# Altium schematic symbol library Projects Library.SchLib: 4 symbols
Pins are listed as number, name and electrical type; pins without a type are passive.

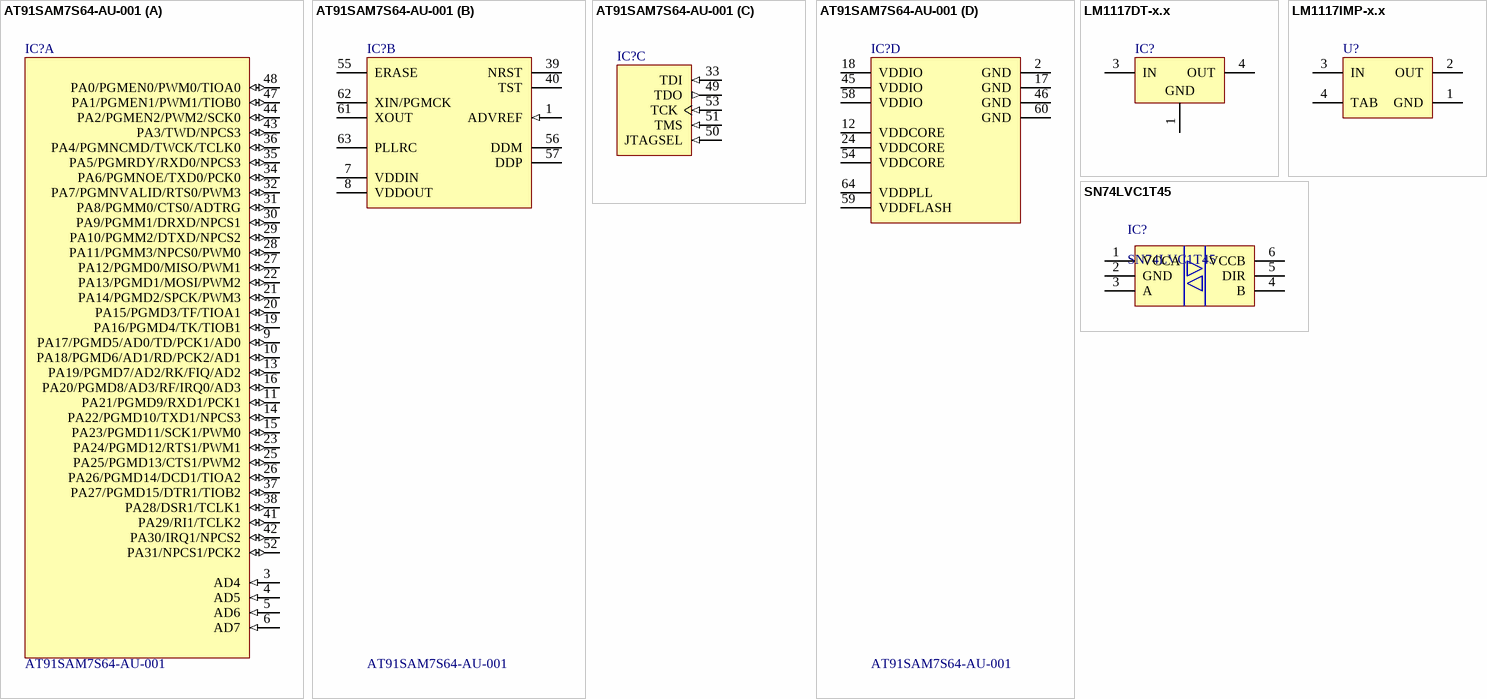
[diagram p0: symbols AT91SAM7S64-AU-001 to SN74LVC1T45]

## AT91SAM7S64-AU-001
designator IC?
AT91 ARM Thumb-based 32-bit Microcontroller, 64KB Flash, 16KB SRAM, 11-ch. PDC, 64-Pin LQFP, Industrial Grade (-40°C to 85°C), Pb-Free; Published: 16-Oct-2006; DatasheetVersion: revJ, Dec-2009; PackageVersion: Apr-2006; PackageReference: LQFP64; Publisher: Altium Limited; PackageDescription: 64-Pin Thin Quad Flat Pack 0.5 mm Pitch; Supplier 1: Digi-Key; Supplier Part Number 1: AT91SAM7S64-AU001-ND; Supplier 2: Farnell; Supplier Part Number 2: 1528288; Supplier 3: Farnell; Supplier Part Number 3: 1095462; Supplier 4: Mouser; Supplier Part Number 4: 556-A91SAM7S64AU001; Code_JEDEC: MS-026-BCD; ComponentLink1Description: Manufacturer Link; ComponentLink1URL: http://www.atmel.com/products/AT91/default.asp?; ComponentLink2Description: AT91SAM7S Series Datasheet; ComponentLink2URL: http://www.atmel.com/dyn/resources/prod_documents/doc6175.pdf; ComponentLink3Description: AT91SAM7S Series Summary; ComponentLink3URL: http://www.atmel.com/dyn/resources/prod_documents/6175s.pdf; ComponentLink4Description: ARM7TDMI Reference Manual; ComponentLink4URL: http://www.atmel.com/dyn/resources/prod_documents/DDI0029G_7TDMI_R3_trm.pdf; ComponentLink5Description: Atmel.com Home; ComponentLink5URL: http://www.atmel.com
footprint LQFP64_N (Thin QFP, 64-Leads, Body 10x10mm, Pitch 0.5mm, IPC Medium Density)
footprint LQFP64_L (Thin QFP, 64-Leads, Body 10x10mm, Pitch 0.5mm, IPC High Density)
footprint LQFP64_M (Thin QFP, 64-Leads, Body 10x10mm, Pitch 0.5mm, IPC Low Density)
part A pins: 3 AD4 (in), 4 AD5 (in), 5 AD6 (in), 6 AD7 (in), 9 PA17/PGMD5/AD0/TD/PCK1/AD0 (io), 10 PA18/PGMD6/AD1/RD/PCK2/AD1 (io), 11 PA21/PGMD9/RXD1/PCK1 (io), 13 PA19/PGMD7/AD2/RK/FIQ/AD2 (io), 14 PA22/PGMD10/TXD1/NPCS3 (io), 15 PA23/PGMD11/SCK1/PWM0 (io), 16 PA20/PGMD8/AD3/RF/IRQ0/AD3 (io), 19 PA16/PGMD4/TK/TIOB1 (io), 20 PA15/PGMD3/TF/TIOA1 (io), 21 PA14/PGMD2/SPCK/PWM3 (io), 22 PA13/PGMD1/MOSI/PWM2 (io), 23 PA24/PGMD12/RTS1/PWM1 (io), 25 PA25/PGMD13/CTS1/PWM2 (io), 26 PA26/PGMD14/DCD1/TIOA2 (io), 27 PA12/PGMD0/MISO/PWM1 (io), 28 PA11/PGMM3/NPCS0/PWM0 (io), 29 PA10/PGMM2/DTXD/NPCS2 (io), 30 PA9/PGMM1/DRXD/NPCS1 (io), 31 PA8/PGMM0/CTS0/ADTRG (io), 32 PA7/PGMNVALID/RTS0/PWM3 (io), 34 PA6/PGMNOE/TXD0/PCK0 (io), 35 PA5/PGMRDY/RXD0/NPCS3 (io), 36 PA4/PGMNCMD/TWCK/TCLK0 (io), 37 PA27/PGMD15/DTR1/TIOB2 (io), 38 PA28/DSR1/TCLK1 (io), 41 PA29/RI1/TCLK2 (io), 42 PA30/IRQ1/NPCS2 (io), 43 PA3/TWD/NPCS3 (io), 44 PA2/PGMEN2/PWM2/SCK0 (io), 47 PA1/PGMEN1/PWM1/TIOB0 (io), 48 PA0/PGMEN0/PWM0/TIOA0 (io), 52 PA31/NPCS1/PCK2 (io)
part B pins: 1 ADVREF (in), 7 VDDIN (power), 8 VDDOUT (power), 39 NRST, 40 TST, 55 ERASE, 56 DDM, 57 DDP, 61 XOUT, 62 XIN/PGMCK, 63 PLLRC
part C pins: 33 TDI (in), 49 TDO (out), 50 JTAGSEL (in), 51 TMS (in), 53 TCK (in)
part D pins: 2 GND (power), 12 VDDCORE (power), 17 GND (power), 18 VDDIO (power), 24 VDDCORE (power), 45 VDDIO (power), 46 GND (power), 54 VDDCORE (power), 58 VDDIO (power), 59 VDDFLASH (power), 60 GND (power), 64 VDDPLL (power)

## LM1117DT-x.x
designator IC?
x.x Volt, 800mA Low-Dropout Linear Regulator, 3-pin TO-252; PartNumber: LM1117DT-3.3; Manufacturer: National Semiconductor; PackageTopMarking: NSUZXYTT*LM1117*DT-X.X; PowerWise: N; CompType: LDO IC; DatasheetVersion: Apr-2006; PackageVersion: revD, Feb-2009; PackageReference: TD03B; PackageDescription: TO252, Molded, Jedec, 6.8 x 6.10 x 2.30mm Body, 3 Lead, 2.28mm Pitch, Surface Mount; Supplier 1: Farnell; Supplier 2: Farnell; RoHS: N; PinCount: 3; Code_JEDEC: TO-252-AA; ComponentLink1Description: LM1117 Datasheet; ComponentLink1URL: http://www.national.com/ds/LM/LM1117.pdf; ComponentLink2Description: LM1117 Web Page; ComponentLink2URL: http://www.national.com/pf/LM/LM1117.html; ComponentLink3Description: TD03B Package Page; ComponentLink3URL: http://www.national.com/packaging/folders/td03b.html
footprint TD03B_N (D-PAK, 4-Leads, Body 6.1x6.6mm, Pitch 2.29mm, Lead Span 9.7mm, IPC Medium Density)
footprint TD03B_L (D-PAK, 4-Leads, Body 6.1x6.6mm, Pitch 2.29mm, Lead Span 9.7mm, IPC High Density)
footprint TD03B_M (D-PAK, 4-Leads, Body 6.1x6.6mm, Pitch 2.29mm, Lead Span 9.7mm, IPC Low Density)
pins: 1 GND (power), 3 IN (power), 4 OUT (power)

## LM1117IMP-x.x
designator U?
x.x Volt, 800mA Low-Dropout Linear Regulator, 4-pin SOT-223; PartNumber: LM1117IMP-3.3; Manufacturer: National Semiconductor; PackageTopMarking: XYTT*N05B; PowerWise: N; CompType: LDO IC; Published: 4-Dec-2008; DatasheetVersion: Apr-2006; PackageVersion: revB, Apr-2003; PackageReference: MP04A; Publisher: Altium Limited; PackageDescription: Molded SOT-223, 6.50 x 3.56 x 1.6mm Body, 4 Lead, 2.3mm Pitch; Supplier 1: Farnell; Supplier Part Number 1: 7614123; RoHS: N; PinCount: 4; Code_JEDEC: TO-261-AA; Code_IPC: SOT223-4; ComponentLink1Description: LM1117 Datasheet; ComponentLink1URL: http://www.national.com/ds/LM/LM1117.pdf; ComponentLink2Description: LM1117 Web Page; ComponentLink2URL: http://www.national.com/pf/LM/LM1117.html; ComponentLink3Description: MP04A Package Page; ComponentLink3URL: http://www.national.com/packaging/folders/mp04a.html
footprint MP04A_N (SOT223, 4-Leads, Body 6.5x3.5mm, Pitch 2.3mm, Lead Span 7mm, IPC Medium Density)
footprint MP04A_L (SOT223, 4-Leads, Body 6.5x3.5mm, Pitch 2.3mm, Lead Span 7mm, IPC High Density)
footprint MP04A_M (SOT223, 4-Leads, Body 6.5x3.5mm, Pitch 2.3mm, Lead Span 7mm, IPC Low Density)
pins: 1 GND (power), 2 OUT (power), 3 IN (power), 4 TAB (power)

## SN74LVC1T45
designator IC?
Single-BIT Dual-Supply bus Transiver; Company: MY; Selling Source: Iranmicro.ir; Design Date: 12/02/2011
footprint TSOP95P280X145-6N (TSOP, 6-Leads, Body 3.0x1.8mm (max), Pitch 0.95mm, IPC Medium Density)
footprint TSOP65P210X110-6N (TSOP, 6-Leads, Body 2.2x1.4mm (max), Pitch 0.65mm, IPC Medium Density)
pins: 1 VCCA (power), 2 GND (power), 3 A (hiz), 4 B (hiz), 5 DIR (hiz), 6 VCCB (power)